# EAGLE library part MX7-93PL-C4 (library con-jae-custom)
DigiKey http://www.digikey.com/product-search/en?lang=en&site=us&KeyWords=MX7-93PL-C4 Datasheet http://jae-connector.com/en/pdf/SJ031431.pdf
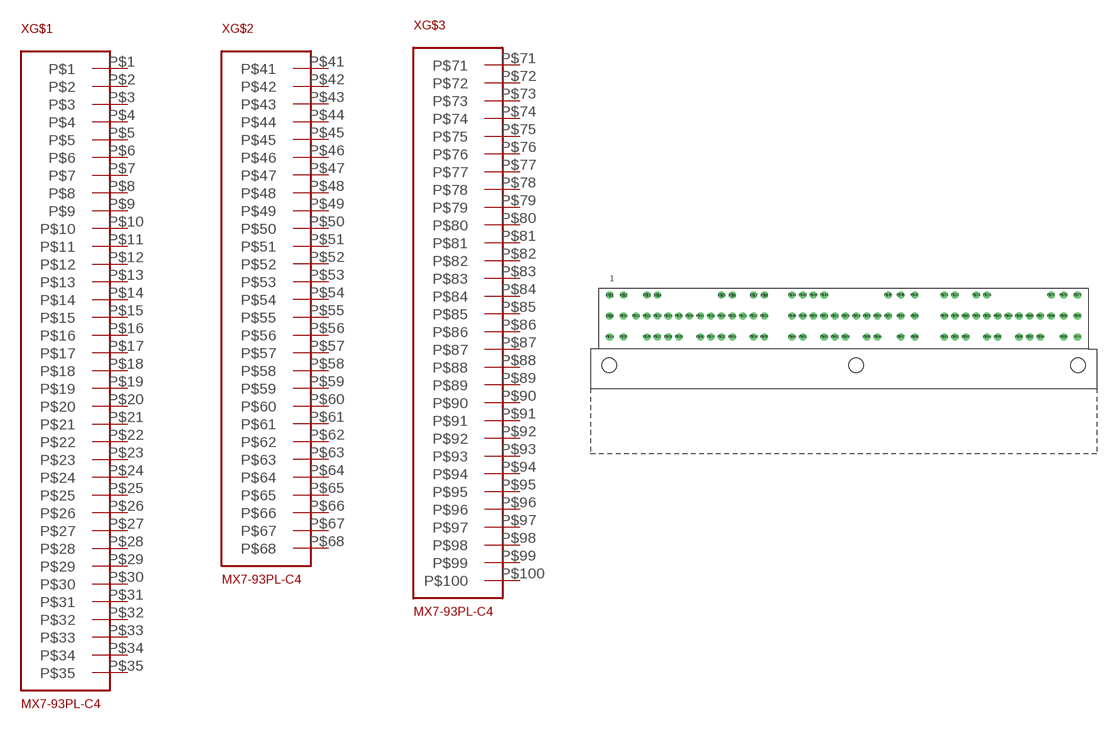
[diagram p0: symbol with the pads of MX7-93PL-C4; footprint MX7-93PL-C4]

Designator prefix X; gates G$1=MX7-93PL-C4-A G$2=MX7-93PL-C4-B G$3=MX7-93PL-C4-C

## MX7-93PL-C4  [MX7-93PL-C4]
P$1  G$1:P$1  pas
P$2  G$1:P$2  pas
P$3  G$1:P$3  pas
P$4  G$1:P$4  pas
P$5  G$1:P$5  pas
P$6  G$1:P$6  pas
P$7  G$1:P$7  pas
P$8  G$1:P$8  pas
P$9  G$1:P$9  pas
P$10  G$1:P$10  pas
P$11  G$1:P$11  pas
P$12  G$1:P$12  pas
P$13  G$1:P$13  pas
P$14  G$1:P$14  pas
P$15  G$1:P$15  pas
P$16  G$1:P$16  pas
P$17  G$1:P$17  pas
P$18  G$1:P$18  pas
P$19  G$1:P$19  pas
P$20  G$1:P$20  pas
P$21  G$1:P$21  pas
P$22  G$1:P$22  pas
P$23  G$1:P$23  pas
P$24  G$1:P$24  pas
P$25  G$1:P$25  pas
P$26  G$1:P$26  pas
P$27  G$1:P$27  pas
P$28  G$1:P$28  pas
P$29  G$1:P$29  pas
P$30  G$1:P$30  pas
P$31  G$1:P$31  pas
P$32  G$1:P$32  pas
P$33  G$1:P$33  pas
P$34  G$1:P$34  pas
P$35  G$1:P$35  pas
P$41  G$2:P$41  pas
P$42  G$2:P$42  pas
P$43  G$2:P$43  pas
P$44  G$2:P$44  pas
P$45  G$2:P$45  pas
P$46  G$2:P$46  pas
P$47  G$2:P$47  pas
P$48  G$2:P$48  pas
P$49  G$2:P$49  pas
P$50  G$2:P$50  pas
P$51  G$2:P$51  pas
P$52  G$2:P$52  pas
P$53  G$2:P$53  pas
P$54  G$2:P$54  pas
P$55  G$2:P$55  pas
P$56  G$2:P$56  pas
P$57  G$2:P$57  pas
P$58  G$2:P$58  pas
P$59  G$2:P$59  pas
P$60  G$2:P$60  pas
P$61  G$2:P$61  pas
P$62  G$2:P$62  pas
P$63  G$2:P$63  pas
P$64  G$2:P$64  pas
P$65  G$2:P$65  pas
P$66  G$2:P$66  pas
P$67  G$2:P$67  pas
P$68  G$2:P$68  pas
P$71  G$3:P$71  pas
P$72  G$3:P$72  pas
P$73  G$3:P$73  pas
P$74  G$3:P$74  pas
P$75  G$3:P$75  pas
P$76  G$3:P$76  pas
P$77  G$3:P$77  pas
P$78  G$3:P$78  pas
P$79  G$3:P$79  pas
P$80  G$3:P$80  pas
P$81  G$3:P$81  pas
P$82  G$3:P$82  pas
P$83  G$3:P$83  pas
P$84  G$3:P$84  pas
P$85  G$3:P$85  pas
P$86  G$3:P$86  pas
P$87  G$3:P$87  pas
P$88  G$3:P$88  pas
P$89  G$3:P$89  pas
P$90  G$3:P$90  pas
P$91  G$3:P$91  pas
P$92  G$3:P$92  pas
P$93  G$3:P$93  pas
P$94  G$3:P$94  pas
P$95  G$3:P$95  pas
P$96  G$3:P$96  pas
P$97  G$3:P$97  pas
P$98  G$3:P$98  pas
P$99  G$3:P$99  pas
P$100  G$3:P$100  pas

## Footprint MX7-93PL-C4 (pad centres in mm)
DigiKey http://www.digikey.com/product-search/en?lang=en&site=us&KeyWords=MX7-93PL-C4 Datasheet http://jae-connector.com/en/pdf/SJ031431.pdf
drill 1: P$1 -50.4,15.1; P$2 -47.4,15.1; P$3 -42.4,15.1; P$4 -40.1,15.1; P$5 -26.3,15.1; P$6 -24,15.1; P$7 -19.4,15.1; P$8 -17.1,15.1; P$9 -50.4,10.6; P$10 -47.4,10.6; P$11 -44.7,10.6; P$12 -42.4,10.6; P$13 -40.1,10.6; P$14 -37.8,10.6; P$15 -35.5,10.6; P$16 -33.2,10.6; P$17 -30.9,10.6; P$18 -28.6,10.6; P$19 -26.3,10.6; P$20 -24,10.6; P$21 -21.7,10.6; P$22 -19.4,10.6; P$23 -17.1,10.6; P$24 -50.4,6.1; P$25 -47.4,6.1; P$26 -42.4,6.1; P$27 -40.1,6.1; P$28 -37.8,6.1; P$29 -35.5,6.1; P$30 -30.9,6.1; P$31 -28.6,6.1; P$32 -26.3,6.1; P$33 -24,6.1; P$34 -19.4,6.1; P$35 -17.1,6.1; P$41 -11.1,15.1; P$42 -8.8,15.1; P$43 -6.5,15.1; P$44 -4.2,15.1; P$45 9.6,15.1; P$46 12.3,15.1; P$47 15.3,15.1; P$48 -11.1,10.6; P$49 -8.8,10.6; P$50 -6.5,10.6; P$51 -4.2,10.6; P$52 -1.9,10.6; P$53 0.4,10.6; P$54 2.7,10.6; P$55 5,10.6; P$56 7.3,10.6; P$57 9.6,10.6; P$58 12.3,10.6; P$59 15.3,10.6; P$60 -11.1,6.1; P$61 -8.8,6.1; P$62 -4.2,6.1; P$63 -1.9,6.1; P$64 0.4,6.1; P$65 5,6.1; P$66 7.3,6.1; P$67 12.3,6.1; P$68 15.3,6.1; P$71 21.7,15.1; P$72 24,15.1; P$73 28.6,15.1; P$74 30.9,15.1; P$75 44.7,15.1; P$76 47.4,15.1; P$77 50.4,15.1; P$78 21.7,10.6; P$79 24,10.6; P$80 26.3,10.6; P$81 28.6,10.6; P$82 30.9,10.6; P$83 33.2,10.6; P$84 35.5,10.6; P$85 37.8,10.6; P$86 40.1,10.6; P$87 42.4,10.6; P$88 44.7,10.6; P$89 47.4,10.6; P$90 50.4,10.6; P$91 21.7,6.1; P$92 24,6.1; P$93 26.3,6.1; P$94 30.9,6.1; P$95 33.2,6.1; P$96 37.8,6.1; P$97 40.1,6.1; P$98 42.4,6.1; P$99 47.4,6.1; P$100 50.4,6.1
hole 3.2 at -50.5,0
hole 3.2 at 2.7,0
hole 3.2 at 50.5,0